# Altium footprint library Resistors.PcbLib: 4 footprints
Each footprint in its own frame and in the unit in brackets; x right, y up, seen from the top. Pads: shape width x height; smd on the part's side, far side on the other; paste and mask are expansions set on the pad; w line width, h text height; cw(c..) or ccw(c..) is an arc to the next point about the centre after c.
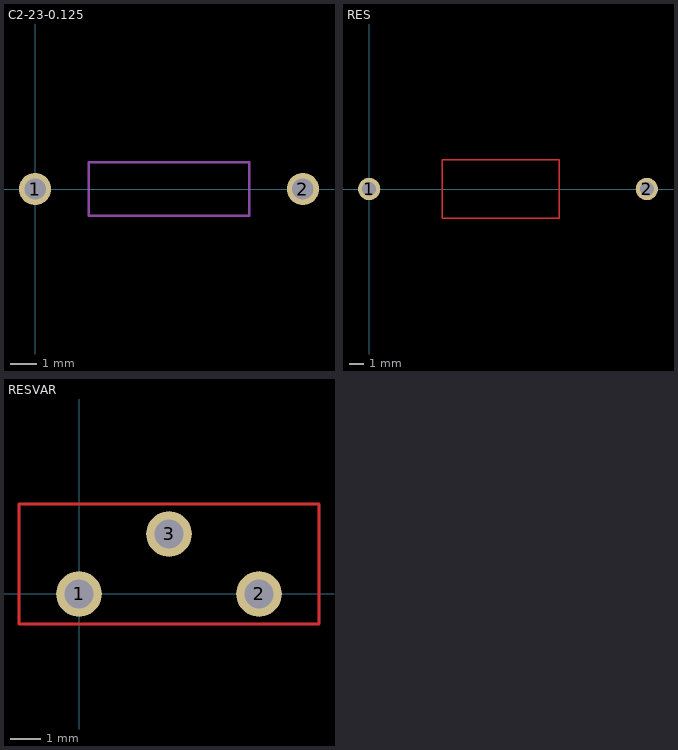
[diagram p0: the footprints below, top view; thin cyan lines are the x and y axes]

## C2-23-0.125 [mm]
pads (2):
  round 1.2 hole 0.8: 1(0,0) 2(10,0)
Mechanical 1:
  lines w0.1: 2,-1 8,-1 8,1 2,1 2,-1

## PCBComponent_1 [mil]

## RES [mil]
pads (2):
  round 60 hole 38: 1(0,0) 2(748.03,0)
Top Layer:
  lines w3.94: 196.85,-78.74 511.81,-78.74 511.81,78.74 196.85,78.74 196.85,-78.74

## RESVAR [mil]
pads (3):
  round 60 hole 38: 1(0,0) 2(236.22,0) 3(118.11,78.74)
Top Layer:
  lines w3.94: -78.74,-39.37 314.96,-39.37 314.96,118.11 -78.74,118.11 -78.74,-39.37